# Altium integrated library TI_Logic_Flip-Flop,Latch,Register.IntLib: 2598 symbols (part 112 of 122)
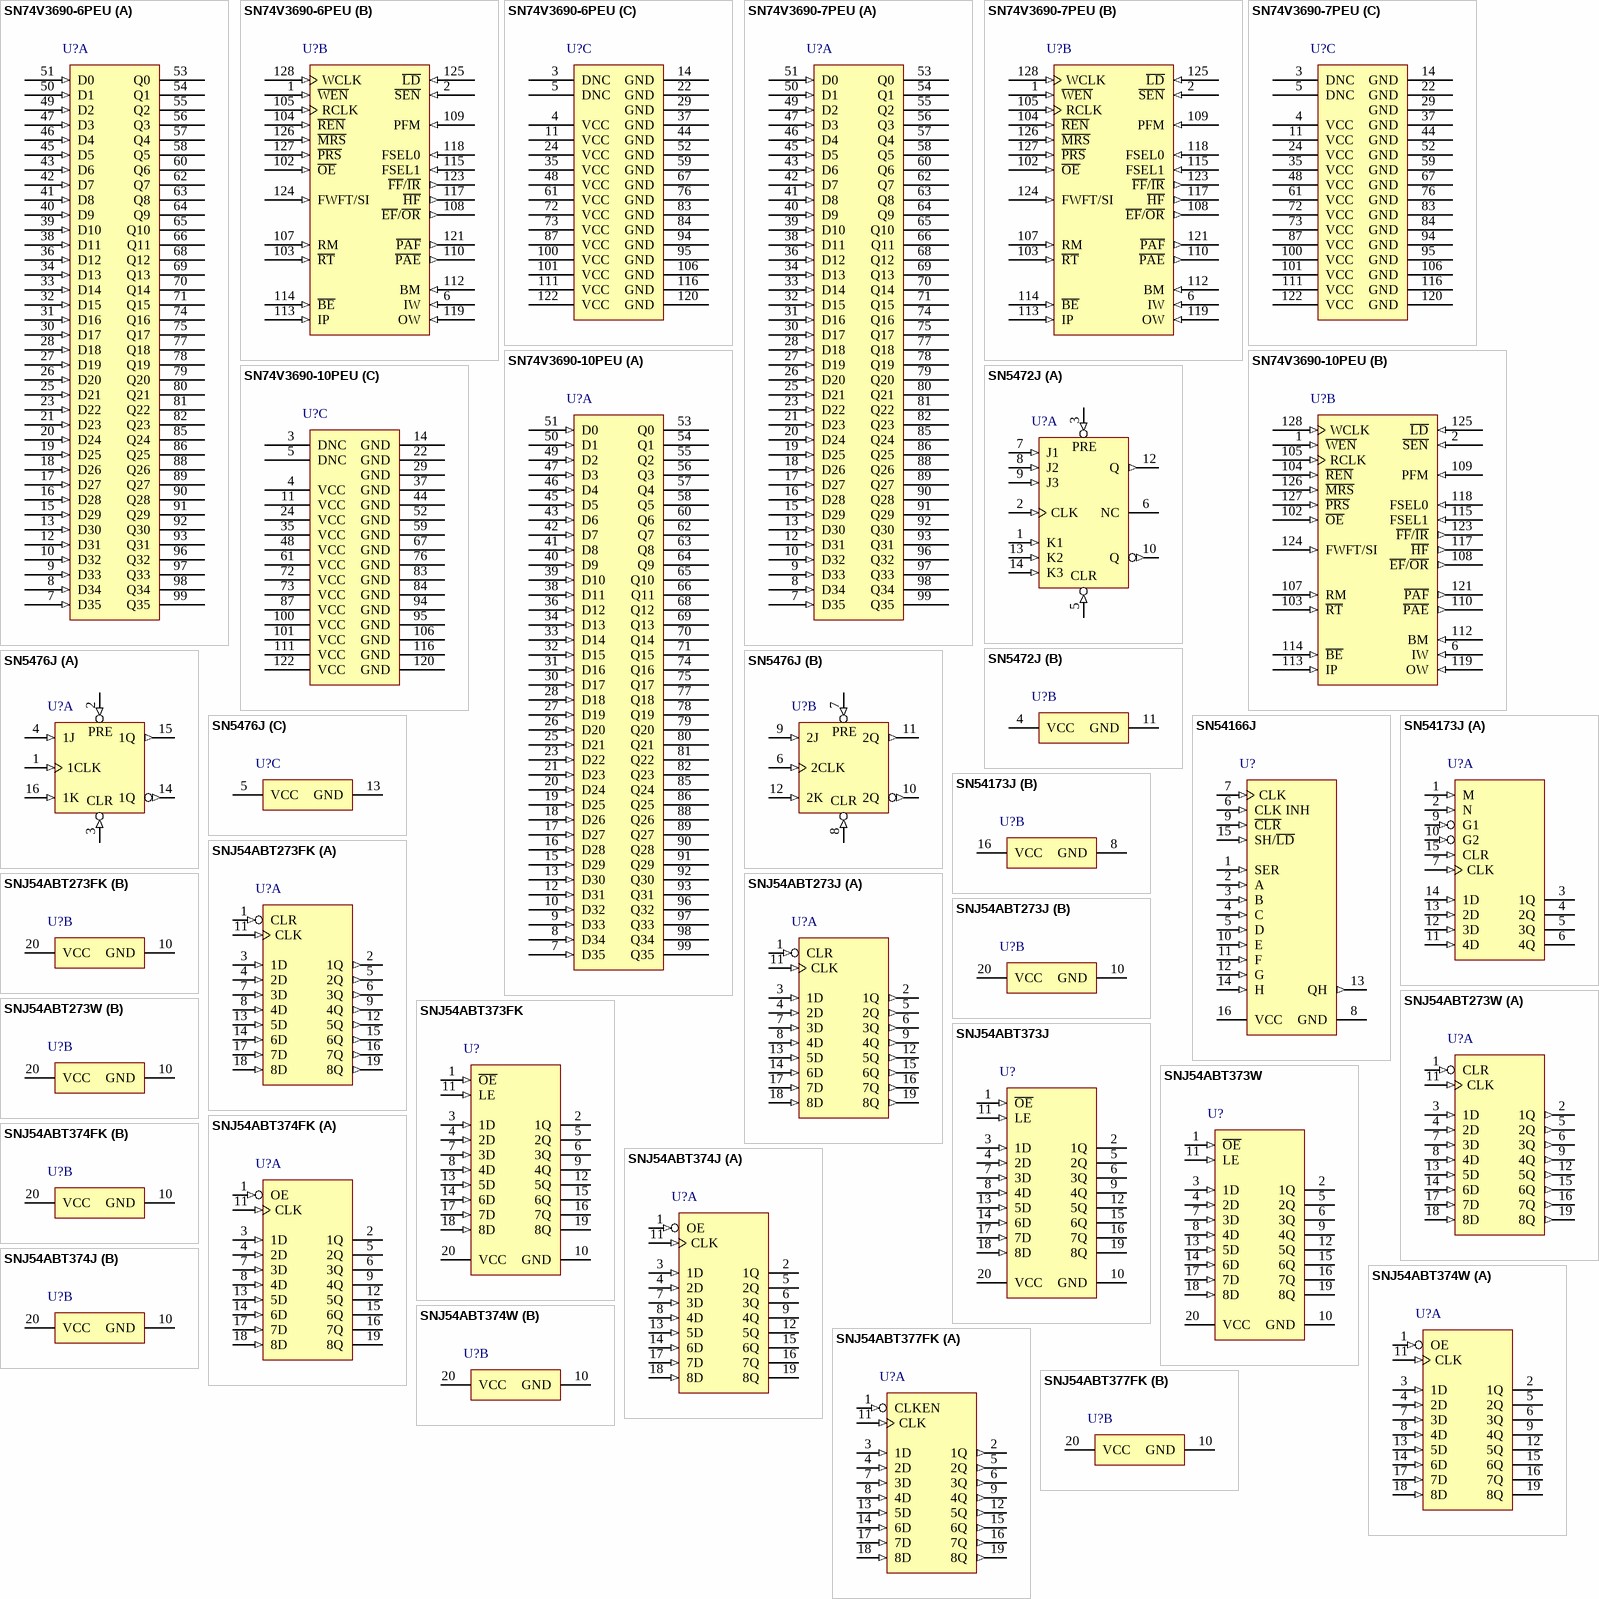
[diagram p250: symbols SN74V3690-6PEU to SNJ54ABT377FK]

## SNJ54ABT373J
designator U?
Octal Transparent D-type Latches With 3-State Outputs, J0020A, TUBE; Generic Part Number: SN54ABT373; Manufacturer: Texas Instruments; PartNumber: SNJ54ABT373J; VCC(Min)(V): 4.5; VCC(Max)(V): 5.5; Output Type: TTL; Logic: True; ICC @ Nom Voltage(Max)(mA): 30; Bits(#): 8; F @ Nom Voltage(Max)(Mhz): 150; Rating: Military; Technology Family: ABT; Schmitt Trigger: No; Output Drive (IOL/IOH)(Max)(mA): 64/-32; Output Logic: Non-inverted; 3-State Output: Yes; tpd @ Nom Voltage(Max)(ns): 7.2; DatasheetVersion: SCBS155D; PackageReference: J0020A; Input Type: TTL; Operating Temperature Range(C): -55 to 125; ComponentLink1Description: Manufacturer URL; ComponentLink1URL: http://www.ti.com/; ComponentLink2Description: Datasheet; ComponentLink2URL: http://www.ti.com/lit/ds/symlink/sn54abt373.pdf; ComponentLink3Description: Package Specification; ComponentLink3URL: http://www.ti.com/lit/ml/mcer002d/mcer002d.pdf
footprint J0020A (DIP, 20-Leads, Body 26.9x7.2mm, Pitch 2.54mm)
pins: 1 ~{OE} (in) "Output Enable", 2 1Q (hiz) "1Q Output", 3 1D (in) "1D Input", 4 2D (in) "2D Input", 5 2Q (hiz) "2Q Output", 6 3Q (hiz) "3Q Output", 7 3D (in) "3D Input", 8 4D (in) "4D Input", 9 4Q (hiz) "4Q Output", 10 GND (power) "Ground Pin", 11 LE (in) "Latch Enable", 12 5Q (hiz) "5Q Output", 13 5D (in) "5D Input", 14 6D (in) "6D Input", 15 6Q (hiz) "6Q Output", 16 7Q (hiz) "7Q Output", 17 7D (in) "7D Input", 18 8D (in) "8D Input", 19 8Q (hiz) "8Q Output", 20 VCC (power) "Power Pin"

## SNJ54ABT373W
designator U?
Octal Transparent D-type Latches With 3-State Outputs, W0020A, TUBE; Generic Part Number: SN54ABT373; Manufacturer: Texas Instruments; PartNumber: SNJ54ABT373W; VCC(Min)(V): 4.5; VCC(Max)(V): 5.5; Output Type: TTL; Logic: True; ICC @ Nom Voltage(Max)(mA): 30; Bits(#): 8; F @ Nom Voltage(Max)(Mhz): 150; Rating: Military; Technology Family: ABT; Schmitt Trigger: No; Output Drive (IOL/IOH)(Max)(mA): 64/-32; Output Logic: Non-inverted; 3-State Output: Yes; tpd @ Nom Voltage(Max)(ns): 7.2; DatasheetVersion: SCBS155D; PackageReference: W0020A; Input Type: TTL; Operating Temperature Range(C): -55 to 125; ComponentLink1Description: Manufacturer URL; ComponentLink1URL: http://www.ti.com/; ComponentLink2Description: Datasheet; ComponentLink2URL: http://www.ti.com/lit/ds/symlink/sn54abt373.pdf; ComponentLink3Description: Package Specification; ComponentLink3URL: http://www.ti.com/lit/ml/mcfp006d/mcfp006d.pdf
footprint W0020A_N (CFP, 20-Leads, Body 13.72x7.62mm, Pitch 1.27mm, IPC Medium Density)
footprint W0020A_M (CFP, 20-Leads, Body 13.72x7.62mm, Pitch 1.27mm, IPC Low Density)
footprint W0020A_L (CFP, 20-Leads, Body 13.72x7.62mm, Pitch 1.27mm, IPC High Density)
pins: 1 ~{OE} (in) "Output Enable", 2 1Q (hiz) "1Q Output", 3 1D (in) "1D Input", 4 2D (in) "2D Input", 5 2Q (hiz) "2Q Output", 6 3Q (hiz) "3Q Output", 7 3D (in) "3D Input", 8 4D (in) "4D Input", 9 4Q (hiz) "4Q Output", 10 GND (power) "Ground Pin", 11 LE (in) "Latch Enable", 12 5Q (hiz) "5Q Output", 13 5D (in) "5D Input", 14 6D (in) "6D Input", 15 6Q (hiz) "6Q Output", 16 7Q (hiz) "7Q Output", 17 7D (in) "7D Input", 18 8D (in) "8D Input", 19 8Q (hiz) "8Q Output", 20 VCC (power) "Power Pin"

## SNJ54ABT374FK
designator U?
Octal Edge-Triggered D-Type Flip-Flops with 3-State Outputs, FK0020A, TUBE; Generic Part Number: SN54ABT374; Manufacturer: Texas Instruments; PartNumber: SNJ54ABT374FK; Rating: Military; Technology Family: ABT; Schmitt Trigger: No; DatasheetVersion: SCBS111G; PackageReference: FK0020A; Operating Temperature Range(C): -55 to 125; Code_JEDEC: MS-004; ComponentLink1Description: Manufacturer URL; ComponentLink1URL: http://www.ti.com/; ComponentLink2Description: Datasheet; ComponentLink2URL: http://www.ti.com/lit/ds/symlink/sn54abt374.pdf; ComponentLink3Description: Package Specification; ComponentLink3URL: http://www.ti.com/lit/ml/mlcc006d/mlcc006d.pdf
footprint FK0020A_N (LCC, 20-Leads, Body 8.9x8.9mm, Pitch 1.27mm, IPC Medium Density)
footprint FK0020A_M (LCC, 20-Leads, Body 8.9x8.9mm, Pitch 1.27mm, IPC Low Density)
footprint FK0020A_L (LCC, 20-Leads, Body 8.9x8.9mm, Pitch 1.27mm, IPC High Density)
part A pins: 1 OE (in), 2 1Q (hiz), 3 1D (in), 4 2D (in), 5 2Q (hiz), 6 3Q (hiz), 7 3D (in), 8 4D (in), 9 4Q (hiz), 11 CLK (in), 12 5Q (hiz), 13 5D (in), 14 6D (in), 15 6Q (hiz), 16 7Q (hiz), 17 7D (in), 18 8D (in), 19 8Q (hiz)
part B pins: 10 GND (power), 20 VCC (power)

## SNJ54ABT374J
designator U?
Octal Edge-Triggered D-Type Flip-Flops with 3-State Outputs, J0020A, TUBE; Generic Part Number: SN54ABT374; Manufacturer: Texas Instruments; PartNumber: SNJ54ABT374J; Rating: Military; Technology Family: ABT; Schmitt Trigger: No; DatasheetVersion: SCBS111G; PackageReference: J0020A; Operating Temperature Range(C): -55 to 125; ComponentLink1Description: Manufacturer URL; ComponentLink1URL: http://www.ti.com/; ComponentLink2Description: Datasheet; ComponentLink2URL: http://www.ti.com/lit/ds/symlink/sn54abt374.pdf; ComponentLink3Description: Package Specification; ComponentLink3URL: http://www.ti.com/lit/ml/mcer002d/mcer002d.pdf
footprint J0020A (DIP, 20-Leads, Body 26.9x7.2mm, Pitch 2.54mm)
part A pins: 1 OE (in), 2 1Q (hiz), 3 1D (in), 4 2D (in), 5 2Q (hiz), 6 3Q (hiz), 7 3D (in), 8 4D (in), 9 4Q (hiz), 11 CLK (in), 12 5Q (hiz), 13 5D (in), 14 6D (in), 15 6Q (hiz), 16 7Q (hiz), 17 7D (in), 18 8D (in), 19 8Q (hiz)
part B pins: 10 GND (power), 20 VCC (power)

## SNJ54ABT374W
designator U?
Octal Edge-Triggered D-Type Flip-Flops with 3-State Outputs, W0020A, TUBE; Generic Part Number: SN54ABT374; Manufacturer: Texas Instruments; PartNumber: SNJ54ABT374W; Rating: Military; Technology Family: ABT; Schmitt Trigger: No; DatasheetVersion: SCBS111G; PackageReference: W0020A; Operating Temperature Range(C): -55 to 125; ComponentLink1Description: Manufacturer URL; ComponentLink1URL: http://www.ti.com/; ComponentLink2Description: Datasheet; ComponentLink2URL: http://www.ti.com/lit/ds/symlink/sn54abt374.pdf; ComponentLink3Description: Package Specification; ComponentLink3URL: http://www.ti.com/lit/ml/mcfp006d/mcfp006d.pdf
footprint W0020A_N (CFP, 20-Leads, Body 13.72x7.62mm, Pitch 1.27mm, IPC Medium Density)
footprint W0020A_M (CFP, 20-Leads, Body 13.72x7.62mm, Pitch 1.27mm, IPC Low Density)
footprint W0020A_L (CFP, 20-Leads, Body 13.72x7.62mm, Pitch 1.27mm, IPC High Density)
part A pins: 1 OE (in), 2 1Q (hiz), 3 1D (in), 4 2D (in), 5 2Q (hiz), 6 3Q (hiz), 7 3D (in), 8 4D (in), 9 4Q (hiz), 11 CLK (in), 12 5Q (hiz), 13 5D (in), 14 6D (in), 15 6Q (hiz), 16 7Q (hiz), 17 7D (in), 18 8D (in), 19 8Q (hiz)
part B pins: 10 GND (power), 20 VCC (power)

## SNJ54ABT377FK
designator U?
Octal Edge-Triggered D-type Flip-Flops With Clock Enable, FK0020A, TUBE; Generic Part Number: SN54ABT377; Manufacturer: Texas Instruments; PartNumber: SNJ54ABT377FK; Rating: Military; Technology Family: ABT; Schmitt Trigger: No; DatasheetVersion: SCBS156E; PackageReference: FK0020A; Operating Temperature Range(C): -55 to 125; Code_JEDEC: MS-004; ComponentLink1Description: Manufacturer URL; ComponentLink1URL: http://www.ti.com/; ComponentLink2Description: Datasheet; ComponentLink2URL: http://www.ti.com/lit/ds/symlink/sn54abt377.pdf; ComponentLink3Description: Package Specification; ComponentLink3URL: http://www.ti.com/lit/ml/mlcc006d/mlcc006d.pdf
footprint FK0020A_N (LCC, 20-Leads, Body 8.9x8.9mm, Pitch 1.27mm, IPC Medium Density)
footprint FK0020A_M (LCC, 20-Leads, Body 8.9x8.9mm, Pitch 1.27mm, IPC Low Density)
footprint FK0020A_L (LCC, 20-Leads, Body 8.9x8.9mm, Pitch 1.27mm, IPC High Density)
part A pins: 1 CLKEN (in), 2 1Q (out), 3 1D (in), 4 2D (in), 5 2Q (out), 6 3Q (out), 7 3D (in), 8 4D (in), 9 4Q (out), 11 CLK (in), 12 5Q (out), 13 5D (in), 14 6D (in), 15 6Q (out), 16 7Q (out), 17 7D (in), 18 8D (in), 19 8Q (out)
part B pins: 10 GND (power), 20 VCC (power)

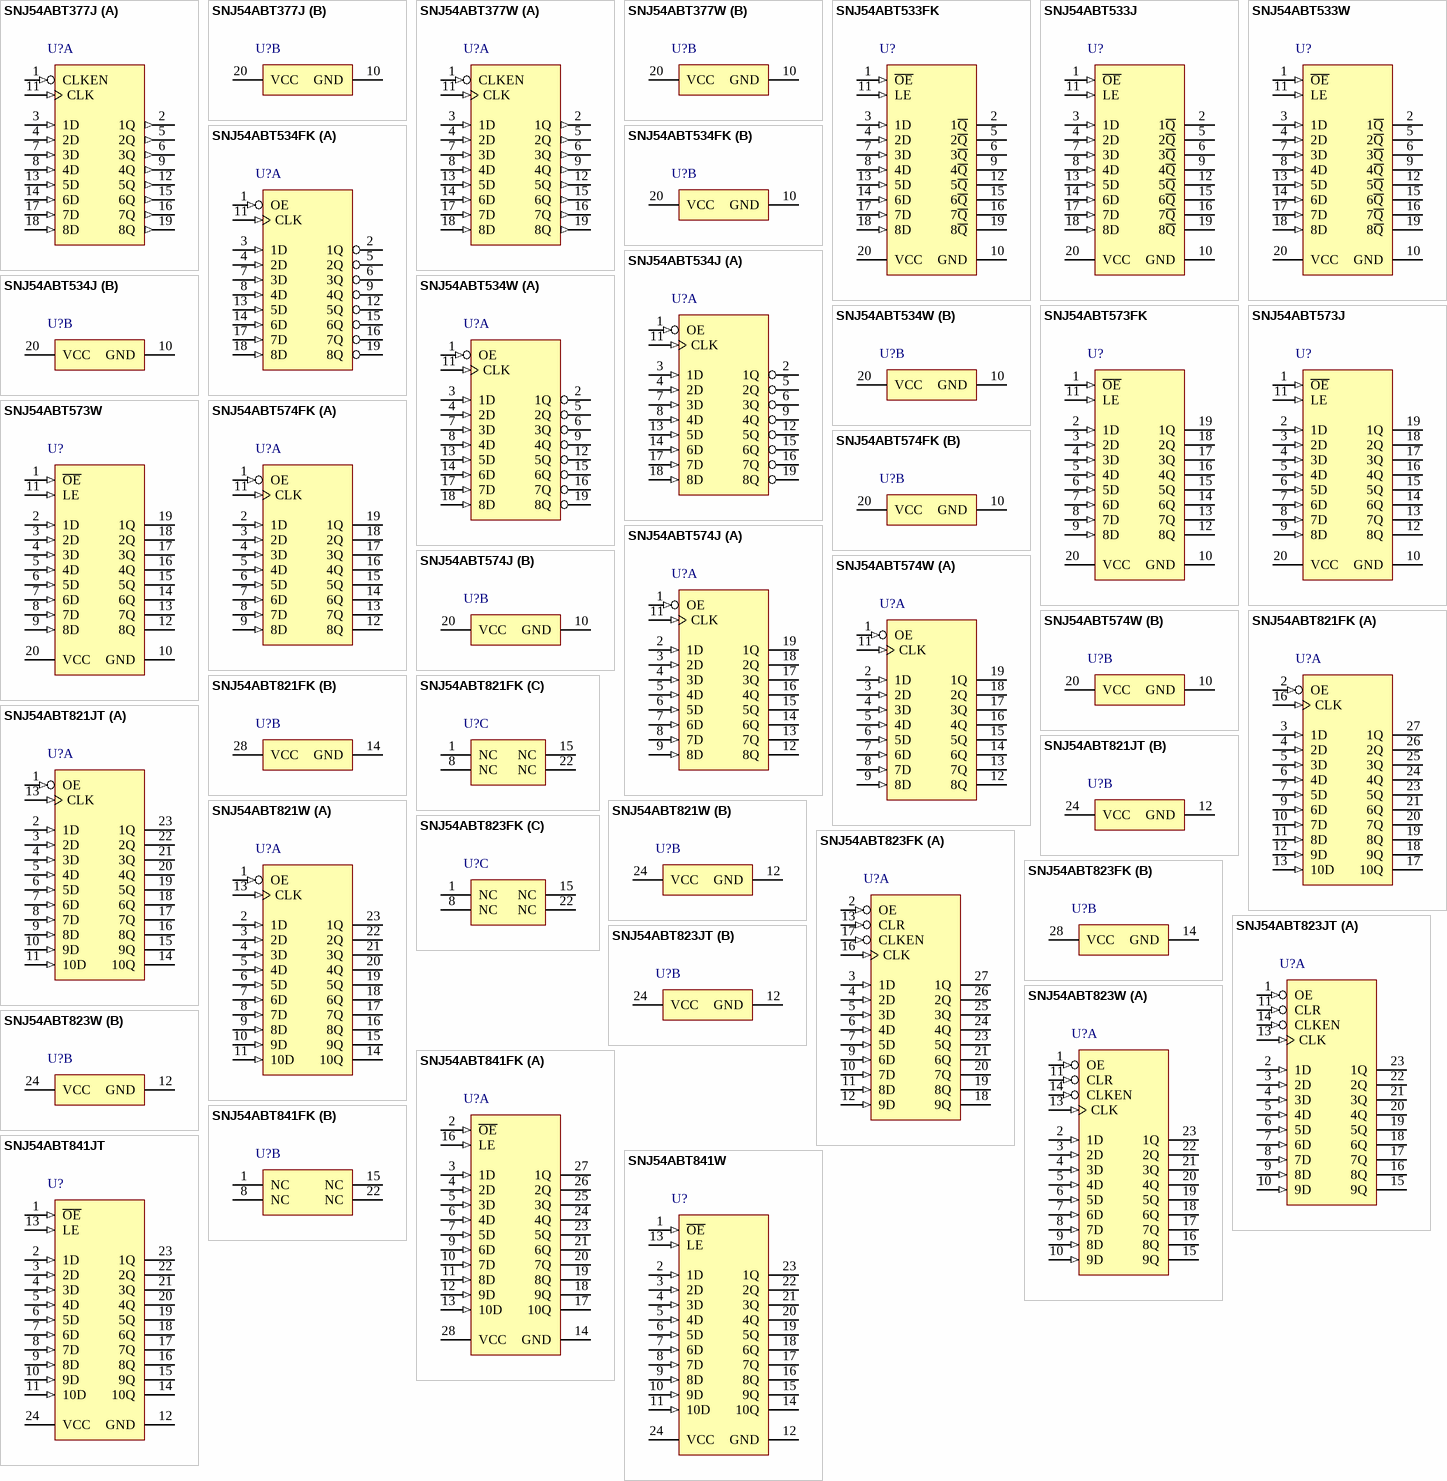
[diagram p121: symbols SNJ54ABT377J to SNJ54ABT841W]

## SNJ54ABT377J
designator U?
Octal Edge-Triggered D-type Flip-Flops With Clock Enable, J0020A, TUBE; Generic Part Number: SN54ABT377; Manufacturer: Texas Instruments; PartNumber: SNJ54ABT377J; Rating: Military; Technology Family: ABT; Schmitt Trigger: No; DatasheetVersion: SCBS156E; PackageReference: J0020A; Operating Temperature Range(C): -55 to 125; ComponentLink1Description: Manufacturer URL; ComponentLink1URL: http://www.ti.com/; ComponentLink2Description: Datasheet; ComponentLink2URL: http://www.ti.com/lit/ds/symlink/sn54abt377.pdf; ComponentLink3Description: Package Specification; ComponentLink3URL: http://www.ti.com/lit/ml/mcer002d/mcer002d.pdf
footprint J0020A (DIP, 20-Leads, Body 26.9x7.2mm, Pitch 2.54mm)
part A pins: 1 CLKEN (in), 2 1Q (out), 3 1D (in), 4 2D (in), 5 2Q (out), 6 3Q (out), 7 3D (in), 8 4D (in), 9 4Q (out), 11 CLK (in), 12 5Q (out), 13 5D (in), 14 6D (in), 15 6Q (out), 16 7Q (out), 17 7D (in), 18 8D (in), 19 8Q (out)
part B pins: 10 GND (power), 20 VCC (power)

## SNJ54ABT377W
designator U?
Octal Edge-Triggered D-type Flip-Flops With Clock Enable, W0020A, TUBE; Generic Part Number: SN54ABT377; Manufacturer: Texas Instruments; PartNumber: SNJ54ABT377W; Rating: Military; Technology Family: ABT; Schmitt Trigger: No; DatasheetVersion: SCBS156E; PackageReference: W0020A; Operating Temperature Range(C): -55 to 125; ComponentLink1Description: Manufacturer URL; ComponentLink1URL: http://www.ti.com/; ComponentLink2Description: Datasheet; ComponentLink2URL: http://www.ti.com/lit/ds/symlink/sn54abt377.pdf; ComponentLink3Description: Package Specification; ComponentLink3URL: http://www.ti.com/lit/ml/mcfp006d/mcfp006d.pdf
footprint W0020A_N (CFP, 20-Leads, Body 13.72x7.62mm, Pitch 1.27mm, IPC Medium Density)
footprint W0020A_M (CFP, 20-Leads, Body 13.72x7.62mm, Pitch 1.27mm, IPC Low Density)
footprint W0020A_L (CFP, 20-Leads, Body 13.72x7.62mm, Pitch 1.27mm, IPC High Density)
part A pins: 1 CLKEN (in), 2 1Q (out), 3 1D (in), 4 2D (in), 5 2Q (out), 6 3Q (out), 7 3D (in), 8 4D (in), 9 4Q (out), 11 CLK (in), 12 5Q (out), 13 5D (in), 14 6D (in), 15 6Q (out), 16 7Q (out), 17 7D (in), 18 8D (in), 19 8Q (out)
part B pins: 10 GND (power), 20 VCC (power)

## SNJ54ABT533FK
designator U?
Octal Transparent D-type Latches With 3-State Outputs, FK0020A, TUBE; Generic Part Number: SN54ABT533; Manufacturer: Texas Instruments; PartNumber: SNJ54ABT533FK; Rating: Military; Technology Family: ABT; Schmitt Trigger: No; DatasheetVersion: SCBS186D; PackageReference: FK0020A; Operating Temperature Range(C): -55 to 125; Code_JEDEC: MS-004; ComponentLink1Description: Manufacturer URL; ComponentLink1URL: http://www.ti.com/; ComponentLink2Description: Datasheet; ComponentLink2URL: http://www.ti.com/lit/ds/symlink/sn54abt533.pdf; ComponentLink3Description: Package Specification; ComponentLink3URL: http://www.ti.com/lit/ml/mlcc006d/mlcc006d.pdf
footprint FK0020A_N (LCC, 20-Leads, Body 8.9x8.9mm, Pitch 1.27mm, IPC Medium Density)
footprint FK0020A_M (LCC, 20-Leads, Body 8.9x8.9mm, Pitch 1.27mm, IPC Low Density)
footprint FK0020A_L (LCC, 20-Leads, Body 8.9x8.9mm, Pitch 1.27mm, IPC High Density)
pins: 1 ~{OE} (in), 2 1~{Q} (hiz), 3 1D (in), 4 2D (in), 5 2~{Q} (hiz), 6 3~{Q} (hiz), 7 3D (in), 8 4D (in), 9 4~{Q} (hiz), 10 GND (power), 11 LE (in), 12 5~{Q} (hiz), 13 5D (in), 14 6D (in), 15 6~{Q} (hiz), 16 7~{Q} (hiz), 17 7D (in), 18 8D (in), 19 8~{Q} (hiz), 20 VCC (power)

## SNJ54ABT533J
designator U?
Octal Transparent D-type Latches With 3-State Outputs, J0020A, TUBE; Generic Part Number: SN54ABT533; Manufacturer: Texas Instruments; PartNumber: SNJ54ABT533J; Rating: Military; Technology Family: ABT; Schmitt Trigger: No; DatasheetVersion: SCBS186D; PackageReference: J0020A; Operating Temperature Range(C): -55 to 125; ComponentLink1Description: Manufacturer URL; ComponentLink1URL: http://www.ti.com/; ComponentLink2Description: Datasheet; ComponentLink2URL: http://www.ti.com/lit/ds/symlink/sn54abt533.pdf; ComponentLink3Description: Package Specification; ComponentLink3URL: http://www.ti.com/lit/ml/mcer002d/mcer002d.pdf
footprint J0020A (DIP, 20-Leads, Body 26.9x7.2mm, Pitch 2.54mm)
pins: 1 ~{OE} (in), 2 1~{Q} (hiz), 3 1D (in), 4 2D (in), 5 2~{Q} (hiz), 6 3~{Q} (hiz), 7 3D (in), 8 4D (in), 9 4~{Q} (hiz), 10 GND (power), 11 LE (in), 12 5~{Q} (hiz), 13 5D (in), 14 6D (in), 15 6~{Q} (hiz), 16 7~{Q} (hiz), 17 7D (in), 18 8D (in), 19 8~{Q} (hiz), 20 VCC (power)

## SNJ54ABT533W
designator U?
Octal Transparent D-type Latches With 3-State Outputs, W0020A, TUBE; Generic Part Number: SN54ABT533; Manufacturer: Texas Instruments; PartNumber: SNJ54ABT533W; Rating: Military; Technology Family: ABT; Schmitt Trigger: No; DatasheetVersion: SCBS186D; PackageReference: W0020A; Operating Temperature Range(C): -55 to 125; ComponentLink1Description: Manufacturer URL; ComponentLink1URL: http://www.ti.com/; ComponentLink2Description: Datasheet; ComponentLink2URL: http://www.ti.com/lit/ds/symlink/sn54abt533.pdf; ComponentLink3Description: Package Specification; ComponentLink3URL: http://www.ti.com/lit/ml/mcfp006d/mcfp006d.pdf
footprint W0020A_N (CFP, 20-Leads, Body 13.72x7.62mm, Pitch 1.27mm, IPC Medium Density)
footprint W0020A_M (CFP, 20-Leads, Body 13.72x7.62mm, Pitch 1.27mm, IPC Low Density)
footprint W0020A_L (CFP, 20-Leads, Body 13.72x7.62mm, Pitch 1.27mm, IPC High Density)
pins: 1 ~{OE} (in), 2 1~{Q} (hiz), 3 1D (in), 4 2D (in), 5 2~{Q} (hiz), 6 3~{Q} (hiz), 7 3D (in), 8 4D (in), 9 4~{Q} (hiz), 10 GND (power), 11 LE (in), 12 5~{Q} (hiz), 13 5D (in), 14 6D (in), 15 6~{Q} (hiz), 16 7~{Q} (hiz), 17 7D (in), 18 8D (in), 19 8~{Q} (hiz), 20 VCC (power)

## SNJ54ABT534FK
designator U?
Octal Edge-Triggered D-type Flip-Flops With 3-State Outputs, FK0020A, TUBE; Generic Part Number: SN54ABT534; Manufacturer: Texas Instruments; PartNumber: SNJ54ABT534FK; Rating: Military; Technology Family: ABT; Schmitt Trigger: No; DatasheetVersion: SCBS187F; PackageReference: FK0020A; Operating Temperature Range(C): -55 to 125; Code_JEDEC: MS-004; ComponentLink1Description: Manufacturer URL; ComponentLink1URL: http://www.ti.com/; ComponentLink2Description: Datasheet; ComponentLink2URL: http://www.ti.com/lit/ds/symlink/sn54abt534.pdf; ComponentLink3Description: Package Specification; ComponentLink3URL: http://www.ti.com/lit/ml/mlcc006d/mlcc006d.pdf
footprint FK0020A_N (LCC, 20-Leads, Body 8.9x8.9mm, Pitch 1.27mm, IPC Medium Density)
footprint FK0020A_M (LCC, 20-Leads, Body 8.9x8.9mm, Pitch 1.27mm, IPC Low Density)
footprint FK0020A_L (LCC, 20-Leads, Body 8.9x8.9mm, Pitch 1.27mm, IPC High Density)
part A pins: 1 OE (in), 2 1Q (hiz), 3 1D (in), 4 2D (in), 5 2Q (hiz), 6 3Q (hiz), 7 3D (in), 8 4D (in), 9 4Q (hiz), 11 CLK (in), 12 5Q (hiz), 13 5D (in), 14 6D (in), 15 6Q (hiz), 16 7Q (hiz), 17 7D (in), 18 8D (in), 19 8Q (hiz)
part B pins: 10 GND (power), 20 VCC (power)

## SNJ54ABT534J
designator U?
Octal Edge-Triggered D-type Flip-Flops With 3-State Outputs, J0020A, TUBE; Generic Part Number: SN54ABT534; Manufacturer: Texas Instruments; PartNumber: SNJ54ABT534J; Rating: Military; Technology Family: ABT; Schmitt Trigger: No; DatasheetVersion: SCBS187F; PackageReference: J0020A; Operating Temperature Range(C): -55 to 125; ComponentLink1Description: Manufacturer URL; ComponentLink1URL: http://www.ti.com/; ComponentLink2Description: Datasheet; ComponentLink2URL: http://www.ti.com/lit/ds/symlink/sn54abt534.pdf; ComponentLink3Description: Package Specification; ComponentLink3URL: http://www.ti.com/lit/ml/mcer002d/mcer002d.pdf
footprint J0020A (DIP, 20-Leads, Body 26.9x7.2mm, Pitch 2.54mm)
part A pins: 1 OE (in), 2 1Q (hiz), 3 1D (in), 4 2D (in), 5 2Q (hiz), 6 3Q (hiz), 7 3D (in), 8 4D (in), 9 4Q (hiz), 11 CLK (in), 12 5Q (hiz), 13 5D (in), 14 6D (in), 15 6Q (hiz), 16 7Q (hiz), 17 7D (in), 18 8D (in), 19 8Q (hiz)
part B pins: 10 GND (power), 20 VCC (power)

## SNJ54ABT534W
designator U?
Octal Edge-Triggered D-type Flip-Flops With 3-State Outputs, W0020A, TUBE; Generic Part Number: SN54ABT534; Manufacturer: Texas Instruments; PartNumber: SNJ54ABT534W; Rating: Military; Technology Family: ABT; Schmitt Trigger: No; DatasheetVersion: SCBS187F; PackageReference: W0020A; Operating Temperature Range(C): -55 to 125; ComponentLink1Description: Manufacturer URL; ComponentLink1URL: http://www.ti.com/; ComponentLink2Description: Datasheet; ComponentLink2URL: http://www.ti.com/lit/ds/symlink/sn54abt534.pdf; ComponentLink3Description: Package Specification; ComponentLink3URL: http://www.ti.com/lit/ml/mcfp006d/mcfp006d.pdf
footprint W0020A_N (CFP, 20-Leads, Body 13.72x7.62mm, Pitch 1.27mm, IPC Medium Density)
footprint W0020A_M (CFP, 20-Leads, Body 13.72x7.62mm, Pitch 1.27mm, IPC Low Density)
footprint W0020A_L (CFP, 20-Leads, Body 13.72x7.62mm, Pitch 1.27mm, IPC High Density)
part A pins: 1 OE (in), 2 1Q (hiz), 3 1D (in), 4 2D (in), 5 2Q (hiz), 6 3Q (hiz), 7 3D (in), 8 4D (in), 9 4Q (hiz), 11 CLK (in), 12 5Q (hiz), 13 5D (in), 14 6D (in), 15 6Q (hiz), 16 7Q (hiz), 17 7D (in), 18 8D (in), 19 8Q (hiz)
part B pins: 10 GND (power), 20 VCC (power)

## SNJ54ABT573FK
designator U?
Octal Transparent D-type Latches With 3-State Outputs, FK0020A, TUBE; Generic Part Number: SN54ABT573; Manufacturer: Texas Instruments; PartNumber: SNJ54ABT573FK; Rating: Military; Technology Family: ABT; Schmitt Trigger: No; DatasheetVersion: SCBS190F; PackageReference: FK0020A; Operating Temperature Range(C): -55 to 125; Code_JEDEC: MS-004; ComponentLink1Description: Manufacturer URL; ComponentLink1URL: http://www.ti.com/; ComponentLink2Description: Datasheet; ComponentLink2URL: http://www.ti.com/lit/ds/symlink/sn54abt573.pdf; ComponentLink3Description: Package Specification; ComponentLink3URL: http://www.ti.com/lit/ml/mlcc006d/mlcc006d.pdf
footprint FK0020A_N (LCC, 20-Leads, Body 8.9x8.9mm, Pitch 1.27mm, IPC Medium Density)
footprint FK0020A_M (LCC, 20-Leads, Body 8.9x8.9mm, Pitch 1.27mm, IPC Low Density)
footprint FK0020A_L (LCC, 20-Leads, Body 8.9x8.9mm, Pitch 1.27mm, IPC High Density)
pins: 1 ~{OE} (in), 2 1D (in), 3 2D (in), 4 3D (in), 5 4D (in), 6 5D (in), 7 6D (in), 8 7D (in), 9 8D (in), 10 GND (power), 11 LE (in), 12 8Q (hiz), 13 7Q (hiz), 14 6Q (hiz), 15 5Q (hiz), 16 4Q (hiz), 17 3Q (hiz), 18 2Q (hiz), 19 1Q (hiz), 20 VCC (power)

## SNJ54ABT573J
designator U?
Octal Transparent D-type Latches With 3-State Outputs, J0020A, TUBE; Generic Part Number: SN54ABT573; Manufacturer: Texas Instruments; PartNumber: SNJ54ABT573J; Rating: Military; Technology Family: ABT; Schmitt Trigger: No; DatasheetVersion: SCBS190F; PackageReference: J0020A; Operating Temperature Range(C): -55 to 125; ComponentLink1Description: Manufacturer URL; ComponentLink1URL: http://www.ti.com/; ComponentLink2Description: Datasheet; ComponentLink2URL: http://www.ti.com/lit/ds/symlink/sn54abt573.pdf; ComponentLink3Description: Package Specification; ComponentLink3URL: http://www.ti.com/lit/ml/mcer002d/mcer002d.pdf
footprint J0020A (DIP, 20-Leads, Body 26.9x7.2mm, Pitch 2.54mm)
pins: 1 ~{OE} (in), 2 1D (in), 3 2D (in), 4 3D (in), 5 4D (in), 6 5D (in), 7 6D (in), 8 7D (in), 9 8D (in), 10 GND (power), 11 LE (in), 12 8Q (hiz), 13 7Q (hiz), 14 6Q (hiz), 15 5Q (hiz), 16 4Q (hiz), 17 3Q (hiz), 18 2Q (hiz), 19 1Q (hiz), 20 VCC (power)

## SNJ54ABT573W
designator U?
Octal Transparent D-type Latches With 3-State Outputs, W0020A, TUBE; Generic Part Number: SN54ABT573; Manufacturer: Texas Instruments; PartNumber: SNJ54ABT573W; Rating: Military; Technology Family: ABT; Schmitt Trigger: No; DatasheetVersion: SCBS190F; PackageReference: W0020A; Operating Temperature Range(C): -55 to 125; ComponentLink1Description: Manufacturer URL; ComponentLink1URL: http://www.ti.com/; ComponentLink2Description: Datasheet; ComponentLink2URL: http://www.ti.com/lit/ds/symlink/sn54abt573.pdf; ComponentLink3Description: Package Specification; ComponentLink3URL: http://www.ti.com/lit/ml/mcfp006d/mcfp006d.pdf
footprint W0020A_N (CFP, 20-Leads, Body 13.72x7.62mm, Pitch 1.27mm, IPC Medium Density)
footprint W0020A_M (CFP, 20-Leads, Body 13.72x7.62mm, Pitch 1.27mm, IPC Low Density)
footprint W0020A_L (CFP, 20-Leads, Body 13.72x7.62mm, Pitch 1.27mm, IPC High Density)
pins: 1 ~{OE} (in), 2 1D (in), 3 2D (in), 4 3D (in), 5 4D (in), 6 5D (in), 7 6D (in), 8 7D (in), 9 8D (in), 10 GND (power), 11 LE (in), 12 8Q (hiz), 13 7Q (hiz), 14 6Q (hiz), 15 5Q (hiz), 16 4Q (hiz), 17 3Q (hiz), 18 2Q (hiz), 19 1Q (hiz), 20 VCC (power)

## SNJ54ABT574FK
designator U?
Octal Edge-Triggered D-type Flip-Flops With 3-State Outputs, FK0020A, TUBE; Generic Part Number: SN54ABT574; Manufacturer: Texas Instruments; PartNumber: SNJ54ABT574FK; Rating: Military; Technology Family: ABT; Schmitt Trigger: No; DatasheetVersion: SCBS191F; PackageReference: FK0020A; Operating Temperature Range(C): -55 to 125; Code_JEDEC: MS-004; ComponentLink1Description: Manufacturer URL; ComponentLink1URL: http://www.ti.com/; ComponentLink2Description: Datasheet; ComponentLink2URL: http://www.ti.com/lit/ds/symlink/sn54abt574.pdf; ComponentLink3Description: Package Specification; ComponentLink3URL: http://www.ti.com/lit/ml/mlcc006d/mlcc006d.pdf
footprint FK0020A_N (LCC, 20-Leads, Body 8.9x8.9mm, Pitch 1.27mm, IPC Medium Density)
footprint FK0020A_M (LCC, 20-Leads, Body 8.9x8.9mm, Pitch 1.27mm, IPC Low Density)
footprint FK0020A_L (LCC, 20-Leads, Body 8.9x8.9mm, Pitch 1.27mm, IPC High Density)
part A pins: 1 OE (in), 2 1D (in), 3 2D (in), 4 3D (in), 5 4D (in), 6 5D (in), 7 6D (in), 8 7D (in), 9 8D (in), 11 CLK (in), 12 8Q (hiz), 13 7Q (hiz), 14 6Q (hiz), 15 5Q (hiz), 16 4Q (hiz), 17 3Q (hiz), 18 2Q (hiz), 19 1Q (hiz)
part B pins: 10 GND (power), 20 VCC (power)

## SNJ54ABT574J
designator U?
Octal Edge-Triggered D-type Flip-Flops With 3-State Outputs, J0020A, TUBE; Generic Part Number: SN54ABT574; Manufacturer: Texas Instruments; PartNumber: SNJ54ABT574J; Rating: Military; Technology Family: ABT; Schmitt Trigger: No; DatasheetVersion: SCBS191F; PackageReference: J0020A; Operating Temperature Range(C): -55 to 125; ComponentLink1Description: Manufacturer URL; ComponentLink1URL: http://www.ti.com/; ComponentLink2Description: Datasheet; ComponentLink2URL: http://www.ti.com/lit/ds/symlink/sn54abt574.pdf; ComponentLink3Description: Package Specification; ComponentLink3URL: http://www.ti.com/lit/ml/mcer002d/mcer002d.pdf
footprint J0020A (DIP, 20-Leads, Body 26.9x7.2mm, Pitch 2.54mm)
part A pins: 1 OE (in), 2 1D (in), 3 2D (in), 4 3D (in), 5 4D (in), 6 5D (in), 7 6D (in), 8 7D (in), 9 8D (in), 11 CLK (in), 12 8Q (hiz), 13 7Q (hiz), 14 6Q (hiz), 15 5Q (hiz), 16 4Q (hiz), 17 3Q (hiz), 18 2Q (hiz), 19 1Q (hiz)
part B pins: 10 GND (power), 20 VCC (power)

## SNJ54ABT574W
designator U?
Octal Edge-Triggered D-type Flip-Flops With 3-State Outputs, W0020A, TUBE; Generic Part Number: SN54ABT574; Manufacturer: Texas Instruments; PartNumber: SNJ54ABT574W; Rating: Military; Technology Family: ABT; Schmitt Trigger: No; DatasheetVersion: SCBS191F; PackageReference: W0020A; Operating Temperature Range(C): -55 to 125; ComponentLink1Description: Manufacturer URL; ComponentLink1URL: http://www.ti.com/; ComponentLink2Description: Datasheet; ComponentLink2URL: http://www.ti.com/lit/ds/symlink/sn54abt574.pdf; ComponentLink3Description: Package Specification; ComponentLink3URL: http://www.ti.com/lit/ml/mcfp006d/mcfp006d.pdf
footprint W0020A_N (CFP, 20-Leads, Body 13.72x7.62mm, Pitch 1.27mm, IPC Medium Density)
footprint W0020A_M (CFP, 20-Leads, Body 13.72x7.62mm, Pitch 1.27mm, IPC Low Density)
footprint W0020A_L (CFP, 20-Leads, Body 13.72x7.62mm, Pitch 1.27mm, IPC High Density)
part A pins: 1 OE (in), 2 1D (in), 3 2D (in), 4 3D (in), 5 4D (in), 6 5D (in), 7 6D (in), 8 7D (in), 9 8D (in), 11 CLK (in), 12 8Q (hiz), 13 7Q (hiz), 14 6Q (hiz), 15 5Q (hiz), 16 4Q (hiz), 17 3Q (hiz), 18 2Q (hiz), 19 1Q (hiz)
part B pins: 10 GND (power), 20 VCC (power)

## SNJ54ABT821FK
designator U?
10-Bit Bus Interface Flip-Flops With 3-State Outputs, FK0028A, TUBE; Generic Part Number: SN54ABT821; Manufacturer: Texas Instruments; PartNumber: SNJ54ABT821FK; Rating: Military; Technology Family: ABT; Schmitt Trigger: No; DatasheetVersion: SCBS193E; PackageReference: FK0028A; Operating Temperature Range(C): -55 to 125; Code_JEDEC: MS-004; ComponentLink1Description: Manufacturer URL; ComponentLink1URL: http://www.ti.com/; ComponentLink2Description: Datasheet; ComponentLink2URL: http://www.ti.com/lit/ds/symlink/sn54abt821.pdf; ComponentLink3Description: Package Specification; ComponentLink3URL: http://www.ti.com/lit/ml/mlcc006d/mlcc006d.pdf
footprint FK0028A_N (LCC, 28-Leads, Body 11.43x11.43mm, Pitch 1.27mm, IPC Medium Density)
footprint FK0028A_M (LCC, 28-Leads, Body 11.43x11.43mm, Pitch 1.27mm, IPC Low Density)
footprint FK0028A_L (LCC, 28-Leads, Body 11.43x11.43mm, Pitch 1.27mm, IPC High Density)
part A pins: 2 OE (in), 3 1D (in), 4 2D (in), 5 3D (in), 6 4D (in), 7 5D (in), 9 6D (in), 10 7D (in), 11 8D (in), 12 9D (in), 13 10D (in), 16 CLK (in), 17 10Q (hiz), 18 9Q (hiz), 19 8Q (hiz), 20 7Q (hiz), 21 6Q (hiz), 23 5Q (hiz), 24 4Q (hiz), 25 3Q (hiz), 26 2Q (hiz), 27 1Q (hiz)
part B pins: 14 GND (power), 28 VCC (power)
part C pins: 1 NC, 8 NC, 15 NC, 22 NC

## SNJ54ABT821JT
designator U?
10-Bit Bus Interface Flip-Flops With 3-State Outputs, JT0024A, TUBE; Generic Part Number: SN54ABT821; Manufacturer: Texas Instruments; PartNumber: SNJ54ABT821JT; Rating: Military; Technology Family: ABT; Schmitt Trigger: No; DatasheetVersion: SCBS193E; PackageReference: JT0024A; Operating Temperature Range(C): -55 to 125; Code_JEDEC: MO-058 AA; ComponentLink1Description: Manufacturer URL; ComponentLink1URL: http://www.ti.com/; ComponentLink2Description: Datasheet; ComponentLink2URL: http://www.ti.com/lit/ds/symlink/sn54abt821.pdf; ComponentLink3Description: Package Specification; ComponentLink3URL: http://www.ti.com/lit/ml/mcer004a/mcer004a.pdf
footprint JT0024A (DIP, 24-Leads, Body 7.2x32.5mm, Pitch 2.54mm)
part A pins: 1 OE (in), 2 1D (in), 3 2D (in), 4 3D (in), 5 4D (in), 6 5D (in), 7 6D (in), 8 7D (in), 9 8D (in), 10 9D (in), 11 10D (in), 13 CLK (in), 14 10Q (hiz), 15 9Q (hiz), 16 8Q (hiz), 17 7Q (hiz), 18 6Q (hiz), 19 5Q (hiz), 20 4Q (hiz), 21 3Q (hiz), 22 2Q (hiz), 23 1Q (hiz)
part B pins: 12 GND (power), 24 VCC (power)

## SNJ54ABT821W
designator U?
10-Bit Bus Interface Flip-Flops With 3-State Outputs, W0024A, TUBE; Generic Part Number: SN54ABT821; Manufacturer: Texas Instruments; PartNumber: SNJ54ABT821W; Rating: Military; Technology Family: ABT; Schmitt Trigger: No; DatasheetVersion: SCBS193E; PackageReference: W0024A; Operating Temperature Range(C): -55 to 125; ComponentLink1Description: Manufacturer URL; ComponentLink1URL: http://www.ti.com/; ComponentLink2Description: Datasheet; ComponentLink2URL: http://www.ti.com/lit/ds/symlink/sn54abt821.pdf; ComponentLink3Description: Package Specification; ComponentLink3URL: http://www.ti.com/lit/ml/mcfp006d/mcfp006d.pdf
footprint W0024A_N (CFP, 24-Leads, Body 16.26x9.53mm, Pitch 1.27mm, IPC Medium Density)
footprint W0024A_M (CFP, 24-Leads, Body 16.26x9.53mm, Pitch 1.27mm, IPC Low Density)
footprint W0024A_L (CFP, 24-Leads, Body 16.26x9.53mm, Pitch 1.27mm, IPC High Density)
part A pins: 1 OE (in), 2 1D (in), 3 2D (in), 4 3D (in), 5 4D (in), 6 5D (in), 7 6D (in), 8 7D (in), 9 8D (in), 10 9D (in), 11 10D (in), 13 CLK (in), 14 10Q (hiz), 15 9Q (hiz), 16 8Q (hiz), 17 7Q (hiz), 18 6Q (hiz), 19 5Q (hiz), 20 4Q (hiz), 21 3Q (hiz), 22 2Q (hiz), 23 1Q (hiz)
part B pins: 12 GND (power), 24 VCC (power)

## SNJ54ABT823FK
designator U?
9-Bit Bus-Interface Flip-Flops With 3-State Outputs, FK0028A, TUBE; Generic Part Number: SN54ABT823; Manufacturer: Texas Instruments; PartNumber: SNJ54ABT823FK; VCC(Min)(V): 4.5; VCC(Max)(V): 5.5; Output Type: TTL; ICC @ Nom Voltage(Max)(mA): 38; Bits(#): 9; F @ Nom Voltage(Max)(Mhz): 150; Rating: Military; Technology Family: ABT; Schmitt Trigger: No; Output Drive (IOL/IOH)(Max)(mA): 64/-32; Output Logic: Non-inverted; 3-State Output: Yes; tpd @ Nom Voltage(Max)(ns): 7.1; DatasheetVersion: SCBS158E; PackageReference: FK0028A; Input Type: TTL; Operating Temperature Range(C): -55 to 125; Code_JEDEC: MS-004; ComponentLink1Description: Manufacturer URL; ComponentLink1URL: http://www.ti.com/; ComponentLink2Description: Datasheet; ComponentLink2URL: http://www.ti.com/lit/ds/symlink/sn54abt823.pdf; ComponentLink3Description: Package Specification; ComponentLink3URL: http://www.ti.com/lit/ml/mlcc006d/mlcc006d.pdf
footprint FK0028A_N (LCC, 28-Leads, Body 11.43x11.43mm, Pitch 1.27mm, IPC Medium Density)
footprint FK0028A_M (LCC, 28-Leads, Body 11.43x11.43mm, Pitch 1.27mm, IPC Low Density)
footprint FK0028A_L (LCC, 28-Leads, Body 11.43x11.43mm, Pitch 1.27mm, IPC High Density)
part A pins: 2 OE (in), 3 1D (in), 4 2D (in), 5 3D (in), 6 4D (in), 7 5D (in), 9 6D (in), 10 7D (in), 11 8D (in), 12 9D (in), 13 CLR (in), 16 CLK (in), 17 CLKEN (in), 18 9Q (hiz), 19 8Q (hiz), 20 7Q (hiz), 21 6Q (hiz), 23 5Q (hiz), 24 4Q (hiz), 25 3Q (hiz), 26 2Q (hiz), 27 1Q (hiz)
part B pins: 14 GND (power), 28 VCC (power)
part C pins: 1 NC, 8 NC, 15 NC, 22 NC

## SNJ54ABT823JT
designator U?
9-Bit Bus-Interface Flip-Flops With 3-State Outputs, JT0024A, TUBE; Generic Part Number: SN54ABT823; Manufacturer: Texas Instruments; PartNumber: SNJ54ABT823JT; VCC(Min)(V): 4.5; VCC(Max)(V): 5.5; Output Type: TTL; ICC @ Nom Voltage(Max)(mA): 38; Bits(#): 9; F @ Nom Voltage(Max)(Mhz): 150; Rating: Military; Technology Family: ABT; Schmitt Trigger: No; Output Drive (IOL/IOH)(Max)(mA): 64/-32; Output Logic: Non-inverted; 3-State Output: Yes; tpd @ Nom Voltage(Max)(ns): 7.1; DatasheetVersion: SCBS158E; PackageReference: JT0024A; Input Type: TTL; Operating Temperature Range(C): -55 to 125; Code_JEDEC: MO-058 AA; ComponentLink1Description: Manufacturer URL; ComponentLink1URL: http://www.ti.com/; ComponentLink2Description: Datasheet; ComponentLink2URL: http://www.ti.com/lit/ds/symlink/sn54abt823.pdf; ComponentLink3Description: Package Specification; ComponentLink3URL: http://www.ti.com/lit/ml/mcer004a/mcer004a.pdf
footprint JT0024A (DIP, 24-Leads, Body 7.2x32.5mm, Pitch 2.54mm)
part A pins: 1 OE (in), 2 1D (in), 3 2D (in), 4 3D (in), 5 4D (in), 6 5D (in), 7 6D (in), 8 7D (in), 9 8D (in), 10 9D (in), 11 CLR (in), 13 CLK (in), 14 CLKEN (in), 15 9Q (hiz), 16 8Q (hiz), 17 7Q (hiz), 18 6Q (hiz), 19 5Q (hiz), 20 4Q (hiz), 21 3Q (hiz), 22 2Q (hiz), 23 1Q (hiz)
part B pins: 12 GND (power), 24 VCC (power)

## SNJ54ABT823W
designator U?
9-Bit Bus-Interface Flip-Flops With 3-State Outputs, W0024A, TUBE; Generic Part Number: SN54ABT823; Manufacturer: Texas Instruments; PartNumber: SNJ54ABT823W; VCC(Min)(V): 4.5; VCC(Max)(V): 5.5; Output Type: TTL; ICC @ Nom Voltage(Max)(mA): 38; Bits(#): 9; F @ Nom Voltage(Max)(Mhz): 150; Rating: Military; Technology Family: ABT; Schmitt Trigger: No; Output Drive (IOL/IOH)(Max)(mA): 64/-32; Output Logic: Non-inverted; 3-State Output: Yes; tpd @ Nom Voltage(Max)(ns): 7.1; DatasheetVersion: SCBS158E; PackageReference: W0024A; Input Type: TTL; Operating Temperature Range(C): -55 to 125; ComponentLink1Description: Manufacturer URL; ComponentLink1URL: http://www.ti.com/; ComponentLink2Description: Datasheet; ComponentLink2URL: http://www.ti.com/lit/ds/symlink/sn54abt823.pdf; ComponentLink3Description: Package Specification; ComponentLink3URL: http://www.ti.com/lit/ml/mcfp006d/mcfp006d.pdf
footprint W0024A_N (CFP, 24-Leads, Body 16.26x9.53mm, Pitch 1.27mm, IPC Medium Density)
footprint W0024A_M (CFP, 24-Leads, Body 16.26x9.53mm, Pitch 1.27mm, IPC Low Density)
footprint W0024A_L (CFP, 24-Leads, Body 16.26x9.53mm, Pitch 1.27mm, IPC High Density)
part A pins: 1 OE (in), 2 1D (in), 3 2D (in), 4 3D (in), 5 4D (in), 6 5D (in), 7 6D (in), 8 7D (in), 9 8D (in), 10 9D (in), 11 CLR (in), 13 CLK (in), 14 CLKEN (in), 15 9Q (hiz), 16 8Q (hiz), 17 7Q (hiz), 18 6Q (hiz), 19 5Q (hiz), 20 4Q (hiz), 21 3Q (hiz), 22 2Q (hiz), 23 1Q (hiz)
part B pins: 12 GND (power), 24 VCC (power)

## SNJ54ABT841FK
designator U?
10-Bit Bus-Interface D-type Latches With 3-State Outputs, FK0028A, TUBE; Generic Part Number: SN54ABT841; Manufacturer: Texas Instruments; PartNumber: SNJ54ABT841FK; Rating: Military; Technology Family: ABT; Schmitt Trigger: No; DatasheetVersion: SCBS196D; PackageReference: FK0028A; Operating Temperature Range(C): -55 to 125; Code_JEDEC: MS-004; ComponentLink1Description: Manufacturer URL; ComponentLink1URL: http://www.ti.com/; ComponentLink2Description: Datasheet; ComponentLink2URL: http://www.ti.com/lit/ds/symlink/sn54abt841.pdf; ComponentLink3Description: Package Specification; ComponentLink3URL: http://www.ti.com/lit/ml/mlcc006d/mlcc006d.pdf
footprint FK0028A_N (LCC, 28-Leads, Body 11.43x11.43mm, Pitch 1.27mm, IPC Medium Density)
footprint FK0028A_M (LCC, 28-Leads, Body 11.43x11.43mm, Pitch 1.27mm, IPC Low Density)
footprint FK0028A_L (LCC, 28-Leads, Body 11.43x11.43mm, Pitch 1.27mm, IPC High Density)
part A pins: 2 ~{OE} (in), 3 1D (in), 4 2D (in), 5 3D (in), 6 4D (in), 7 5D (in), 9 6D (in), 10 7D (in), 11 8D (in), 12 9D (in), 13 10D (in), 14 GND (power), 16 LE (in), 17 10Q (hiz), 18 9Q (hiz), 19 8Q (hiz), 20 7Q (hiz), 21 6Q (hiz), 23 5Q (hiz), 24 4Q (hiz), 25 3Q (hiz), 26 2Q (hiz), 27 1Q (hiz), 28 VCC (power)
part B pins: 1 NC, 8 NC, 15 NC, 22 NC

## SNJ54ABT841JT
designator U?
10-Bit Bus-Interface D-type Latches With 3-State Outputs, JT0024A, TUBE; Generic Part Number: SN54ABT841; Manufacturer: Texas Instruments; PartNumber: SNJ54ABT841JT; Rating: Military; Technology Family: ABT; Schmitt Trigger: No; DatasheetVersion: SCBS196D; PackageReference: JT0024A; Operating Temperature Range(C): -55 to 125; Code_JEDEC: MO-058 AA; ComponentLink1Description: Manufacturer URL; ComponentLink1URL: http://www.ti.com/; ComponentLink2Description: Datasheet; ComponentLink2URL: http://www.ti.com/lit/ds/symlink/sn54abt841.pdf; ComponentLink3Description: Package Specification; ComponentLink3URL: http://www.ti.com/lit/ml/mcer004a/mcer004a.pdf
footprint JT0024A (DIP, 24-Leads, Body 7.2x32.5mm, Pitch 2.54mm)
pins: 1 ~{OE} (in), 2 1D (in), 3 2D (in), 4 3D (in), 5 4D (in), 6 5D (in), 7 6D (in), 8 7D (in), 9 8D (in), 10 9D (in), 11 10D (in), 12 GND (power), 13 LE (in), 14 10Q (hiz), 15 9Q (hiz), 16 8Q (hiz), 17 7Q (hiz), 18 6Q (hiz), 19 5Q (hiz), 20 4Q (hiz), 21 3Q (hiz), 22 2Q (hiz), 23 1Q (hiz), 24 VCC (power)

## SNJ54ABT841W
designator U?
10-Bit Bus-Interface D-type Latches With 3-State Outputs, W0024A, TUBE; Generic Part Number: SN54ABT841; Manufacturer: Texas Instruments; PartNumber: SNJ54ABT841W; Rating: Military; Technology Family: ABT; Schmitt Trigger: No; DatasheetVersion: SCBS196D; PackageReference: W0024A; Operating Temperature Range(C): -55 to 125; ComponentLink1Description: Manufacturer URL; ComponentLink1URL: http://www.ti.com/; ComponentLink2Description: Datasheet; ComponentLink2URL: http://www.ti.com/lit/ds/symlink/sn54abt841.pdf; ComponentLink3Description: Package Specification; ComponentLink3URL: http://www.ti.com/lit/ml/mcfp006d/mcfp006d.pdf
footprint W0024A_N (CFP, 24-Leads, Body 16.26x9.53mm, Pitch 1.27mm, IPC Medium Density)
footprint W0024A_M (CFP, 24-Leads, Body 16.26x9.53mm, Pitch 1.27mm, IPC Low Density)
footprint W0024A_L (CFP, 24-Leads, Body 16.26x9.53mm, Pitch 1.27mm, IPC High Density)
pins: 1 ~{OE} (in), 2 1D (in), 3 2D (in), 4 3D (in), 5 4D (in), 6 5D (in), 7 6D (in), 8 7D (in), 9 8D (in), 10 9D (in), 11 10D (in), 12 GND (power), 13 LE (in), 14 10Q (hiz), 15 9Q (hiz), 16 8Q (hiz), 17 7Q (hiz), 18 6Q (hiz), 19 5Q (hiz), 20 4Q (hiz), 21 3Q (hiz), 22 2Q (hiz), 23 1Q (hiz), 24 VCC (power)

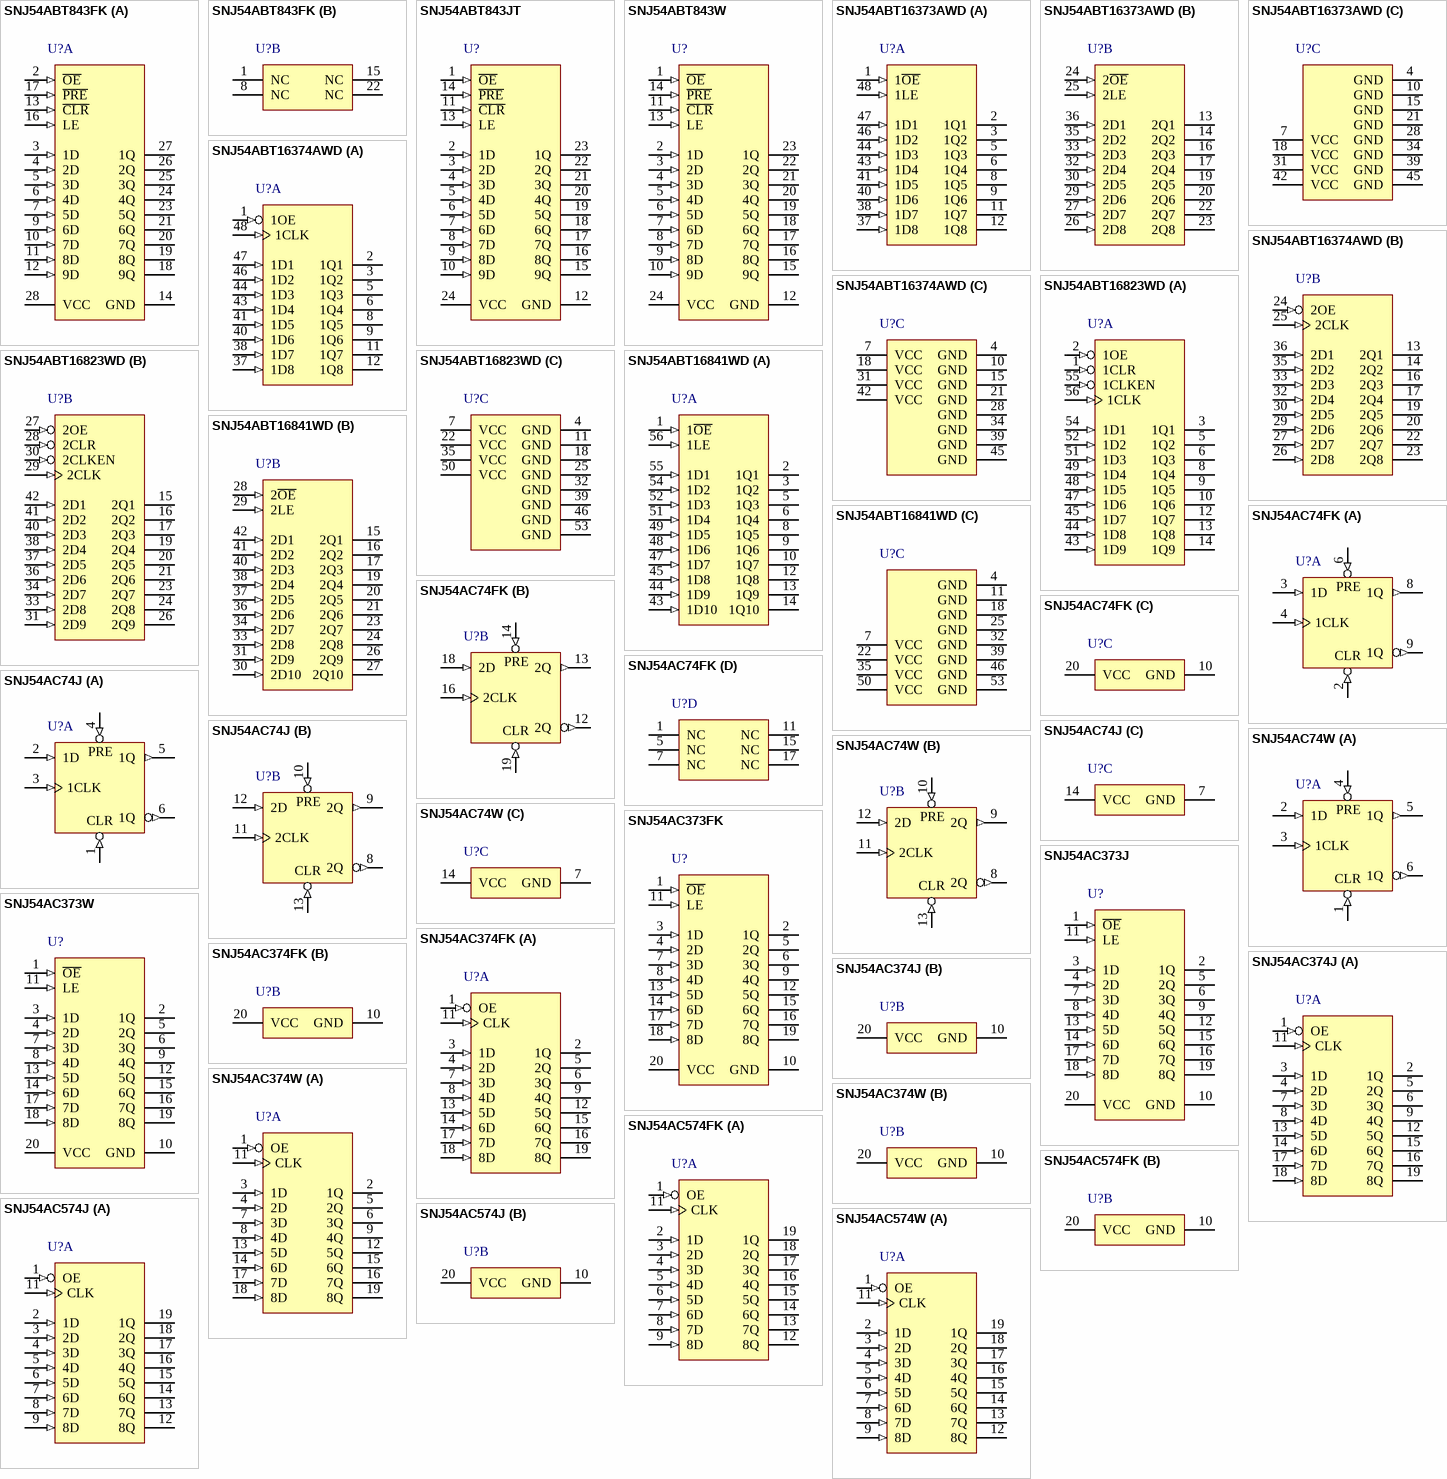
[diagram p122: symbols SNJ54ABT843FK to SNJ54AC574W]

## SNJ54ABT843FK
designator U?
9-Bit Bus-Interface D-type Latches With 3-State Outputs, FK0028A, TUBE; Generic Part Number: SN54ABT843; Manufacturer: Texas Instruments; PartNumber: SNJ54ABT843FK; VCC(Min)(V): 4.5; VCC(Max)(V): 5.5; Output Type: TTL; Logic: True; ICC @ Nom Voltage(Max)(mA): 34; Bits(#): 9; F @ Nom Voltage(Max)(Mhz): 150; Rating: Military; Technology Family: ABT; Schmitt Trigger: No; Output Drive (IOL/IOH)(Max)(mA): 64/-32; Output Logic: Non-inverted; 3-State Output: Yes; tpd @ Nom Voltage(Max)(ns): 7.2; DatasheetVersion: SCBS197D; PackageReference: FK0028A; Input Type: TTL; Operating Temperature Range(C): -55 to 125; Code_JEDEC: MS-004; ComponentLink1Description: Manufacturer URL; ComponentLink1URL: http://www.ti.com/; ComponentLink2Description: Datasheet; ComponentLink2URL: http://www.ti.com/lit/ds/symlink/sn54abt843.pdf; ComponentLink3Description: Package Specification; ComponentLink3URL: http://www.ti.com/lit/ml/mlcc006d/mlcc006d.pdf
footprint FK0028A_N (LCC, 28-Leads, Body 11.43x11.43mm, Pitch 1.27mm, IPC Medium Density)
footprint FK0028A_M (LCC, 28-Leads, Body 11.43x11.43mm, Pitch 1.27mm, IPC Low Density)
footprint FK0028A_L (LCC, 28-Leads, Body 11.43x11.43mm, Pitch 1.27mm, IPC High Density)
part A pins: 2 ~{OE} (in), 3 1D (in), 4 2D (in), 5 3D (in), 6 4D (in), 7 5D (in), 9 6D (in), 10 7D (in), 11 8D (in), 12 9D (in), 13 ~{CLR} (in), 14 GND (power), 16 LE (in), 17 ~{PRE} (in), 18 9Q (hiz), 19 8Q (hiz), 20 7Q (hiz), 21 6Q (hiz), 23 5Q (hiz), 24 4Q (hiz), 25 3Q (hiz), 26 2Q (hiz), 27 1Q (hiz), 28 VCC (power)
part B pins: 1 NC, 8 NC, 15 NC, 22 NC

## SNJ54ABT843JT
designator U?
9-Bit Bus-Interface D-type Latches With 3-State Outputs, JT0024A, TUBE; Generic Part Number: SN54ABT843; Manufacturer: Texas Instruments; PartNumber: SNJ54ABT843JT; VCC(Min)(V): 4.5; VCC(Max)(V): 5.5; Output Type: TTL; Logic: True; ICC @ Nom Voltage(Max)(mA): 34; Bits(#): 9; F @ Nom Voltage(Max)(Mhz): 150; Rating: Military; Technology Family: ABT; Schmitt Trigger: No; Output Drive (IOL/IOH)(Max)(mA): 64/-32; Output Logic: Non-inverted; 3-State Output: Yes; tpd @ Nom Voltage(Max)(ns): 7.2; DatasheetVersion: SCBS197D; PackageReference: JT0024A; Input Type: TTL; Operating Temperature Range(C): -55 to 125; Code_JEDEC: MO-058 AA; ComponentLink1Description: Manufacturer URL; ComponentLink1URL: http://www.ti.com/; ComponentLink2Description: Datasheet; ComponentLink2URL: http://www.ti.com/lit/ds/symlink/sn54abt843.pdf; ComponentLink3Description: Package Specification; ComponentLink3URL: http://www.ti.com/lit/ml/mcer004a/mcer004a.pdf
footprint JT0024A (DIP, 24-Leads, Body 7.2x32.5mm, Pitch 2.54mm)
pins: 1 ~{OE} (in), 2 1D (in), 3 2D (in), 4 3D (in), 5 4D (in), 6 5D (in), 7 6D (in), 8 7D (in), 9 8D (in), 10 9D (in), 11 ~{CLR} (in), 12 GND (power), 13 LE (in), 14 ~{PRE} (in), 15 9Q (hiz), 16 8Q (hiz), 17 7Q (hiz), 18 6Q (hiz), 19 5Q (hiz), 20 4Q (hiz), 21 3Q (hiz), 22 2Q (hiz), 23 1Q (hiz), 24 VCC (power)

## SNJ54ABT843W
designator U?
9-Bit Bus-Interface D-type Latches With 3-State Outputs, W0024A, TUBE; Generic Part Number: SN54ABT843; Manufacturer: Texas Instruments; PartNumber: SNJ54ABT843W; VCC(Min)(V): 4.5; VCC(Max)(V): 5.5; Output Type: TTL; Logic: True; ICC @ Nom Voltage(Max)(mA): 34; Bits(#): 9; F @ Nom Voltage(Max)(Mhz): 150; Rating: Military; Technology Family: ABT; Schmitt Trigger: No; Output Drive (IOL/IOH)(Max)(mA): 64/-32; Output Logic: Non-inverted; 3-State Output: Yes; tpd @ Nom Voltage(Max)(ns): 7.2; DatasheetVersion: SCBS197D; PackageReference: W0024A; Input Type: TTL; Operating Temperature Range(C): -55 to 125; ComponentLink1Description: Manufacturer URL; ComponentLink1URL: http://www.ti.com/; ComponentLink2Description: Datasheet; ComponentLink2URL: http://www.ti.com/lit/ds/symlink/sn54abt843.pdf; ComponentLink3Description: Package Specification; ComponentLink3URL: http://www.ti.com/lit/ml/mcfp006d/mcfp006d.pdf
footprint W0024A_N (CFP, 24-Leads, Body 16.26x9.53mm, Pitch 1.27mm, IPC Medium Density)
footprint W0024A_M (CFP, 24-Leads, Body 16.26x9.53mm, Pitch 1.27mm, IPC Low Density)
footprint W0024A_L (CFP, 24-Leads, Body 16.26x9.53mm, Pitch 1.27mm, IPC High Density)
pins: 1 ~{OE} (in), 2 1D (in), 3 2D (in), 4 3D (in), 5 4D (in), 6 5D (in), 7 6D (in), 8 7D (in), 9 8D (in), 10 9D (in), 11 ~{CLR} (in), 12 GND (power), 13 LE (in), 14 ~{PRE} (in), 15 9Q (hiz), 16 8Q (hiz), 17 7Q (hiz), 18 6Q (hiz), 19 5Q (hiz), 20 4Q (hiz), 21 3Q (hiz), 22 2Q (hiz), 23 1Q (hiz), 24 VCC (power)

## SNJ54ABT16373AWD
designator U?
16-Bit Transparent D-type Latches With 3-State Outputs, WD0048A, TUBE; Generic Part Number: SN54ABT16373A; Manufacturer: Texas Instruments; PartNumber: SNJ54ABT16373AWD; VCC(Min)(V): 4.5; VCC(Max)(V): 5.5; Output Type: TTL; Logic: True; ICC @ Nom Voltage(Max)(mA): 89; Bits(#): 16; F @ Nom Voltage(Max)(Mhz): 150; Rating: Military; Technology Family: ABT; Schmitt Trigger: No; Output Drive (IOL/IOH)(Max)(mA): 64/-32; Output Logic: Non-inverted; 3-State Output: Yes; tpd @ Nom Voltage(Max)(ns): 6.3; DatasheetVersion: SCBS160C; PackageReference: WD0048A; Input Type: TTL; Operating Temperature Range(C): -55 to 125; ComponentLink1Description: Manufacturer URL; ComponentLink1URL: http://www.ti.com/; ComponentLink2Description: Datasheet; ComponentLink2URL: http://www.ti.com/lit/ds/symlink/sn54abt16373a.pdf; ComponentLink3Description: Package Specification; ComponentLink3URL: http://www.ti.com/lit/ml/mcfp010b/mcfp010b.pdf
footprint WD0048A_N (CFP, 48-Leads, Body 18.03x9.91mm, Pitch 0.635mm, IPC Medium Density)
footprint WD0048A_M (CFP, 48-Leads, Body 18.03x9.91mm, Pitch 0.635mm, IPC Low Density)
footprint WD0048A_L (CFP, 48-Leads, Body 18.03x9.91mm, Pitch 0.635mm, IPC High Density)
part A pins: 1 1~{OE} (in) "Output Enable 1", 2 1Q1 (hiz) "1Q1 Output", 3 1Q2 (hiz) "1Q2 Output", 5 1Q3 (hiz) "1Q3 Output", 6 1Q4 (hiz) "1Q4 Output", 8 1Q5 (hiz) "1Q5 Output", 9 1Q6 (hiz) "1Q6 Output", 11 1Q7 (hiz) "1Q7 Output", 12 1Q8 (hiz) "1Q8 Output", 37 1D8 (in) "1D8 Input", 38 1D7 (in) "1D7 Input", 40 1D6 (in) "1D6 Input", 41 1D5 (in) "1D5 Input", 43 1D4 (in) "1D4 Input", 44 1D3 (in) "1D3 Input", 46 1D2 (in) "1D2 Input", 47 1D1 (in) "1D1 Input", 48 1LE (in) "Latch Enable 1"
part B pins: 13 2Q1 (hiz) "2Q1 Output", 14 2Q2 (hiz) "2Q2 Output", 16 2Q3 (hiz) "2Q3 Output", 17 2Q4 (hiz) "2Q4 Output", 19 2Q5 (hiz) "Output", 20 2Q6 (hiz) "2Q6 Output", 22 2Q7 (hiz) "2Q7 Output", 23 2Q8 (hiz) "2Q8 Output", 24 2~{OE} (in) "Output Enable 2", 25 2LE (in) "2LE Input", 26 2D8 (in) "2D8 Input", 27 2D7 (in) "2D7 Input", 29 2D6 (in) "2D6 Input", 30 2D5 (in) "2D5 Input", 32 2D4 (in) "2D4 Input", 33 2D3 (in) "2D3 Input", 35 2D2 (in) "2D2 Input", 36 2D1 (in) "2D1 Input"
part C pins: 4 GND (power) "Ground Pin", 7 VCC (power) "Power Pin", 10 GND (power) "Ground Pin", 15 GND (power) "Ground Pin", 18 VCC (power) "Power Pin", 21 GND (power) "Ground Pin", 28 GND (power) "Ground Pin", 31 VCC (power) "Power Pin", 34 GND (power) "Ground Pin", 39 GND (power) "Ground Pin", 42 VCC (power) "Power Pin", 45 GND (power) "Ground Pin"

## SNJ54ABT16374AWD
designator U?
16-Bit Edge-Triggered D-type Flip-Flops With 3-State Outputs, WD0048A, TUBE; Generic Part Number: SN54ABT16374A; Manufacturer: Texas Instruments; PartNumber: SNJ54ABT16374AWD; VCC(Min)(V): 4.5; VCC(Max)(V): 5.5; Output Type: TTL; ICC @ Nom Voltage(Max)(mA): 72; Bits(#): 16; F @ Nom Voltage(Max)(Mhz): 150; Rating: Military; Technology Family: ABT; Schmitt Trigger: No; Output Drive (IOL/IOH)(Max)(mA): 64/-32; Output Logic: Non-inverted; 3-State Output: Yes; tpd @ Nom Voltage(Max)(ns): 6.2; DatasheetVersion: SCBS205C; PackageReference: WD0048A; Input Type: TTL; Operating Temperature Range(C): -55 to 125; ComponentLink1Description: Manufacturer URL; ComponentLink1URL: http://www.ti.com/; ComponentLink2Description: Datasheet; ComponentLink2URL: http://www.ti.com/lit/ds/symlink/sn54abt16374a.pdf; ComponentLink3Description: Package Specification; ComponentLink3URL: http://www.ti.com/lit/ml/mcfp010b/mcfp010b.pdf
footprint WD0048A_N (CFP, 48-Leads, Body 18.03x9.91mm, Pitch 0.635mm, IPC Medium Density)
footprint WD0048A_M (CFP, 48-Leads, Body 18.03x9.91mm, Pitch 0.635mm, IPC Low Density)
footprint WD0048A_L (CFP, 48-Leads, Body 18.03x9.91mm, Pitch 0.635mm, IPC High Density)
part A pins: 1 1OE (in), 2 1Q1 (hiz), 3 1Q2 (hiz), 5 1Q3 (hiz), 6 1Q4 (hiz), 8 1Q5 (hiz), 9 1Q6 (hiz), 11 1Q7 (hiz), 12 1Q8 (hiz), 37 1D8 (in), 38 1D7 (in), 40 1D6 (in), 41 1D5 (in), 43 1D4 (in), 44 1D3 (in), 46 1D2 (in), 47 1D1 (in), 48 1CLK (in)
part B pins: 13 2Q1 (hiz), 14 2Q2 (hiz), 16 2Q3 (hiz), 17 2Q4 (hiz), 19 2Q5 (hiz), 20 2Q6 (hiz), 22 2Q7 (hiz), 23 2Q8 (hiz), 24 2OE (in), 25 2CLK (in), 26 2D8 (in), 27 2D7 (in), 29 2D6 (in), 30 2D5 (in), 32 2D4 (in), 33 2D3 (in), 35 2D2 (in), 36 2D1 (in)
part C pins: 4 GND (power), 7 VCC (power), 10 GND (power), 15 GND (power), 18 VCC (power), 21 GND (power), 28 GND (power), 31 VCC (power), 34 GND (power), 39 GND (power), 42 VCC (power), 45 GND (power)

## SNJ54ABT16823WD
designator U?
18-Bit Bus-Interface Flip-Flops With 3-State Outputs, WD0056A, TUBE; Generic Part Number: SN54ABT16823; Manufacturer: Texas Instruments; PartNumber: SNJ54ABT16823WD; VCC(Min)(V): 4.5; VCC(Max)(V): 5.5; Output Type: TTL; ICC @ Nom Voltage(Max)(mA): 80; Bits(#): 18; F @ Nom Voltage(Max)(Mhz): 150; Rating: Military; Technology Family: ABT; Schmitt Trigger: No; Output Drive (IOL/IOH)(Max)(mA): 64/-32; Output Logic: Non-inverted; 3-State Output: Yes; tpd @ Nom Voltage(Max)(ns): 6.8; DatasheetVersion: SCBS217C; PackageReference: WD0056A; Input Type: TTL; Operating Temperature Range(C): -55 to 125; ComponentLink1Description: Manufacturer URL; ComponentLink1URL: http://www.ti.com/; ComponentLink2Description: Datasheet; ComponentLink2URL: http://www.ti.com/lit/ds/symlink/sn54abt16823.pdf; ComponentLink3Description: Package Specification; ComponentLink3URL: http://www.ti.com/lit/ml/mcfp010b/mcfp010b.pdf
footprint WD0056A_N (CFP, 56-Leads, Body 18.03x9.91mm, Pitch 0.635mm, IPC Medium Density)
footprint WD0056A_M (CFP, 56-Leads, Body 18.03x9.91mm, Pitch 0.635mm, IPC Low Density)
footprint WD0056A_L (CFP, 56-Leads, Body 18.03x9.91mm, Pitch 0.635mm, IPC High Density)
part A pins: 1 1CLR (in) "Asynchronous Clear Inputs (Active LOW)", 2 1OE (in) "Output Enable Inputs (Active LOW)", 3 1Q1 (hiz) "Three-State Outputs", 5 1Q2 (hiz) "Three-State Outputs", 6 1Q3 (hiz) "Three-State Outputs", 8 1Q4 (hiz) "Three-State Outputs", 9 1Q5 (hiz) "Three-State Outputs", 10 1Q6 (hiz) "Three-State Outputs", 12 1Q7 (hiz) "Three-State Outputs", 13 1Q8 (hiz) "Three-State Outputs", 14 1Q9 (hiz) "Three-State Outputs", 43 1D9 (in) "Data Inputs", 44 1D8 (in) "Data Inputs", 45 1D7 (in) "Data Inputs", 47 1D6 (in) "Data Inputs", 48 1D5 (in) "Data Inputs", 49 1D4 (in) "Data Inputs", 51 1D3 (in) "Data Inputs", 52 1D2 (in) "Data Inputs", 54 1D1 (in) "Data Inputs", 55 1CLKEN (in) "Clock Enable Inputs (Active LOW)", 56 1CLK (in) "Clock Inputs"
part B pins: 15 2Q1 (hiz) "Three-State Outputs", 16 2Q2 (hiz) "Three-State Outputs", 17 2Q3 (hiz) "Three-State Outputs", 19 2Q4 (hiz) "Three-State Outputs", 20 2Q5 (hiz) "Three-State Outputs", 21 2Q6 (hiz) "Three-State Outputs", 23 2Q7 (hiz) "Three-State Outputs", 24 2Q8 (hiz) "Three-State Outputs", 26 2Q9 (hiz) "Three-State Outputs", 27 2OE (in) "Output Enable Inputs (Active LOW)", 28 2CLR (in) "Asynchronous Clear Inputs (Active LOW)", 29 2CLK (in) "Clock Inputs", 30 2CLKEN (in) "Clock Enable Inputs (Active LOW)", 31 2D9 (in) "Data Inputs", 33 2D8 (in) "Data Inputs", 34 2D7 (in) "Data Inputs", 36 2D6 (in) "Data Inputs", 37 2D5 (in) "Data Inputs", 38 2D4 (in) "Data Inputs", 40 2D3 (in) "Data Inputs", 41 2D2 (in) "Data Inputs", 42 2D1 (in) "Data Inputs"
part C pins: 4 GND (power), 7 VCC (power), 11 GND (power), 18 GND (power), 22 VCC (power), 25 GND (power), 32 GND (power), 35 VCC (power), 39 GND (power), 46 GND (power), 50 VCC (power), 53 GND (power)